# Altium integrated library micrel.IntLib: 2 symbols
Pins are listed as number, name and electrical type; pins without a type are passive.

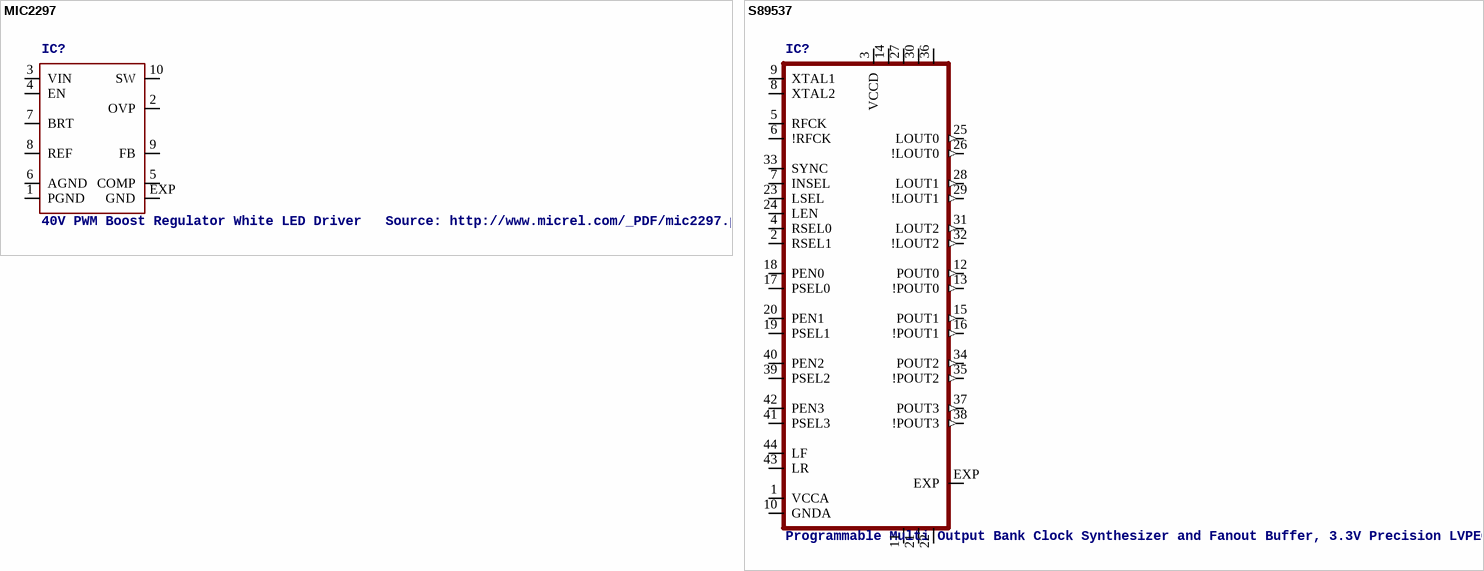
[diagram p0: symbols MIC2297 to S89537]

## MIC2297
designator IC?, comment 40V PWM Boost Regulator White LED Driver   Source: http://www.micrel.com/_PDF/mic2297.pdf
MPN: MIC2297-38YML TR; OC_FARNELL: 1663107; OC_NEWARK: 11R3489
footprint MLF10
pins: 1 PGND, 2 OVP, 3 VIN, 4 EN, 5 COMP, 6 AGND, 7 BRT, 8 REF, 9 FB, 10 SW (oc), EXP GND

## S89537
designator IC?, comment Programmable Multi Output Bank Clock Synthesizer and Fanout Buffer, 3.3V Precision LVPECL and LVDS   Source: http://www.micrel.com/_PDF/HBW/sy89537l.pdf
OC_FARNELL: unknown; OC_NEWARK: unknown
footprint MLF44
pins: 1 VCCA (power), 2 RSEL1, 3 VCCD (power), 4 RSEL0, 5 RFCK, 6 !RFCK, 7 INSEL, 8 XTAL2, 9 XTAL1, 10 GNDA (power), 11 GND@1 (power), 12 POUT0 (out), 13 !POUT0 (out), 14 VCCO@1 (power), 15 POUT1 (out), 16 !POUT1 (out), 17 PSEL0, 18 PEN0, 19 PSEL1, 20 PEN1, 21 GND@2 (power), 22 GND@3 (power), 23 LSEL, 24 LEN, 25 LOUT0 (out), 26 !LOUT0 (out), 27 VCCO@2 (power), 28 LOUT1 (out), 29 !LOUT1 (out), 30 VCCO@3 (power), 31 LOUT2 (out), 32 !LOUT2 (out), 33 SYNC, 34 POUT2 (out), 35 !POUT2 (out), 36 VCCO@4 (power), 37 POUT3 (out), 38 !POUT3 (out), 39 PSEL2, 40 PEN2, 41 PSEL3, 42 PEN3, 43 LR, 44 LF, EXP